# EAGLE library part VL53L1X (library SparkFun-Sensors)
STMicroelectronics VL53L1X - 400 cm IR Laser ToF Sensor VL53L1X is a state-of-the-art ToF laser-ranging sensor, enhancing the ST FlightSense product family. It is the fastest miniature ToF sensor currently on the market with accurate ranging up to 4 m and fast ranging frequency (up to 50 Hz). Housed in a miniature and reflowable package, it integrates a single photon avalanche diode (SPAD) receiving array, a 940 nm invisible laser Class 1 emitter, physical infrared filters, and optics to achieve the best ranging performance in various ambient lighting conditions with a range of cover window options.
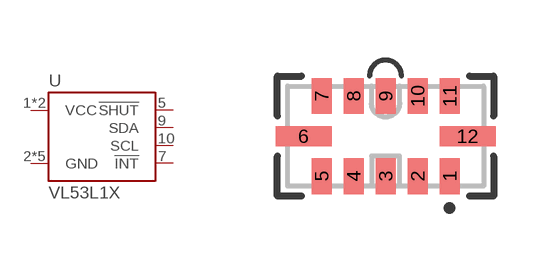
[diagram p47: symbol with the pads of VL53L1X; footprint VL53L1X]

Designator prefix U

## VL53L1XSMD (PROD_ID: IC-13960)  [VL53L1X]
1  VCC
2  GND
3  GND
4  GND
5  !SHUT
6  GND
7  !INT
9  SDA
10  SCL
11  VCC
12  GND

## Footprint VL53L1X (pad centres in mm)
LGA-12 - 12 pin LGA package for the V53L1x Specifications: Pin count: 12 Pin pitch: .8 mm Area: 4.8 mm x 2.4 mm Datasheet referenced for footprint <https://www.mouser.com/datasheet/2/389/en.DM00452094-1315090.pdf>
smd 0.5 x 0.9: 1 1.6,-1; 2 0.8,-1; 3 0,-1; 4 -0.8,-1; 5 -1.6,-1; 7 -1.6,1; 8 -0.8,1; 9 0,1; 10 0.8,1; 11 1.6,1
smd 1.4 x 0.5: 6 -2.05,0; 12 2.05,0